# Altium footprint library MLACH_obsolete.PCBLIB: 154 footprints (part 8 of 10)
Each footprint in its own frame and in the unit in brackets; x right, y up, seen from the top. Pads: shape width x height; smd on the part's side, far side on the other; paste and mask are expansions set on the pad; w line width, h text height; cw(c..) or ccw(c..) is an arc to the next point about the centre after c.
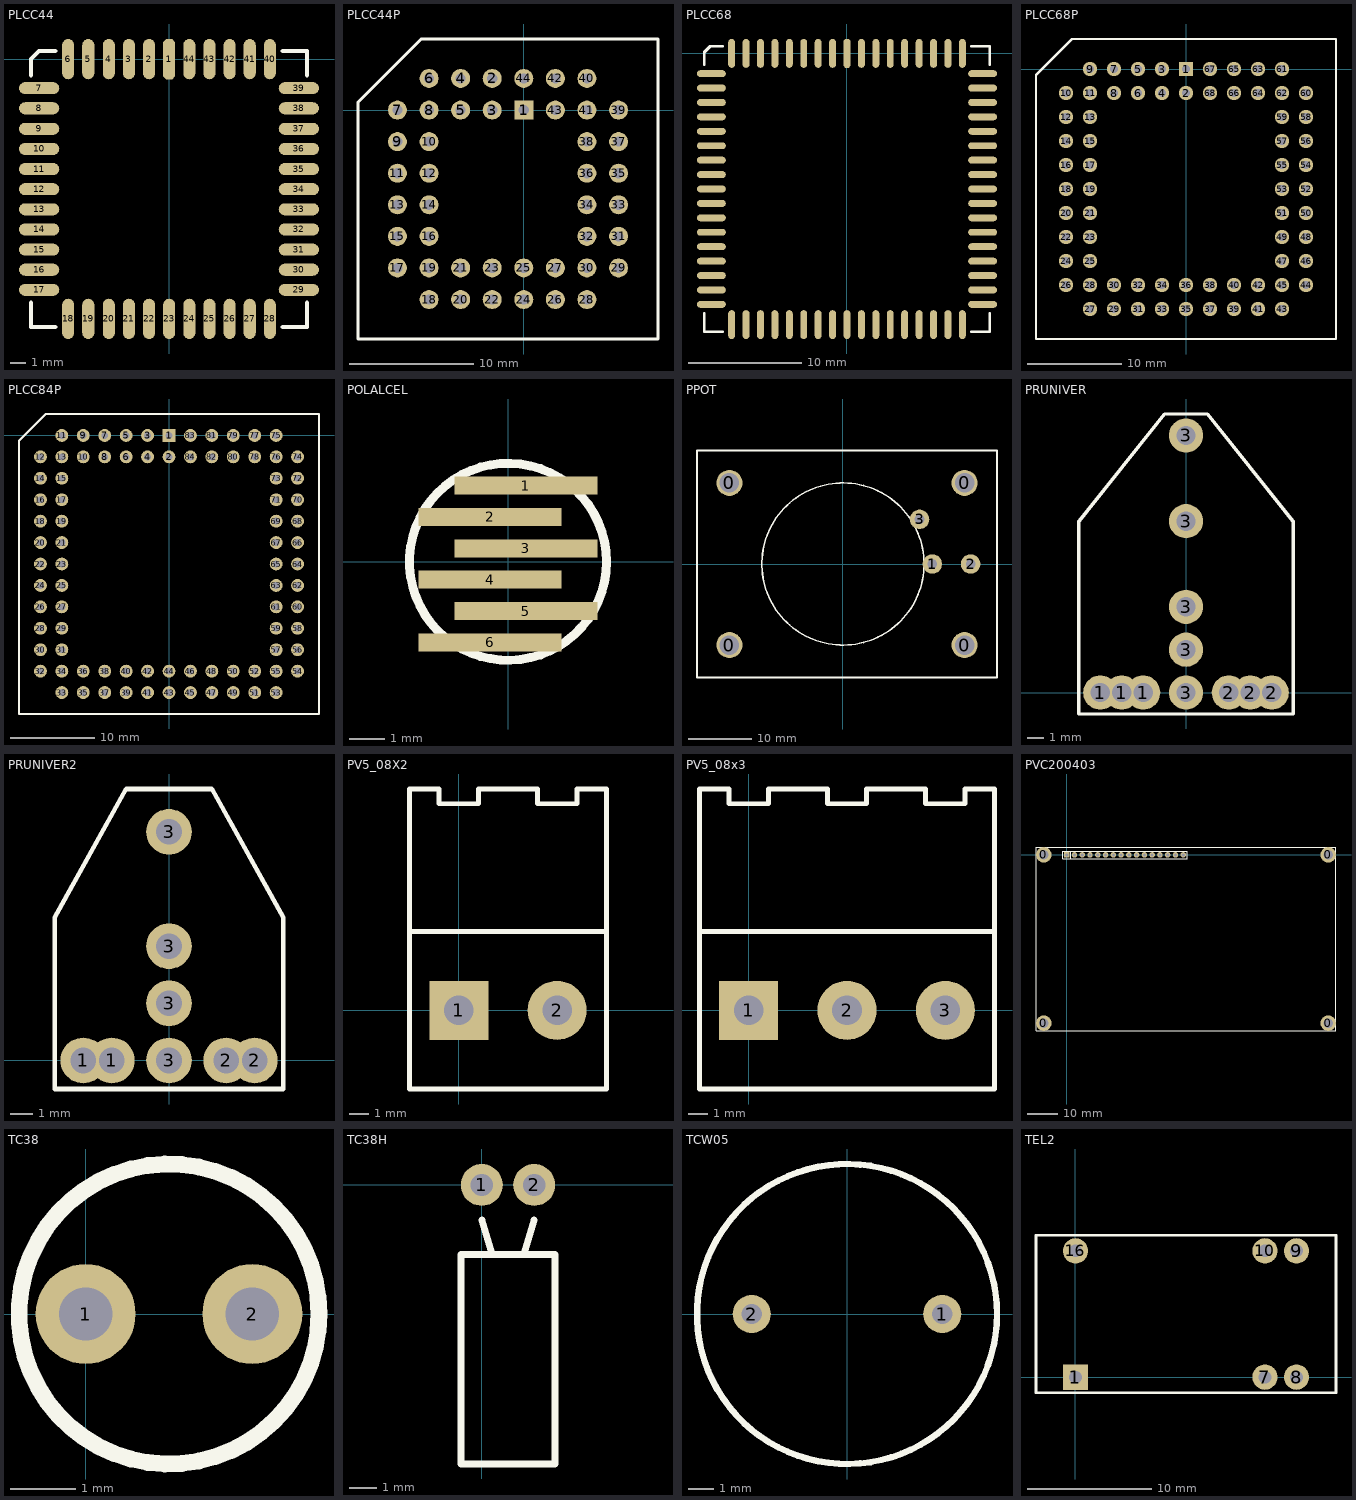
[diagram p7: the footprints below, top view; thin cyan lines are the x and y axes]

## PLCC44 [mil]
pads (44):
  oct 30x100 smd: 1(0,0)
  oval 30x100 smd: 2(-50,0) 3(-100,0) 4(-150,0) 5(-201,0) 6(-251,0) 18(-251,-645) 19(-201,-645) 20(-150,-645) 21(-100,-645) 22(-50,-645) 23(0,-645) 24(50,-645) 25(100,-645) 26(150,-645) 27(200,-645) 28(250,-645) 40(250,0) 41(200,0) 42(150,0) 43(100,0) 44(50,0)
  oval 100x30 smd: 7(-323,-72) 8(-323,-122) 9(-323,-173) 10(-323,-223) 11(-323,-273) 12(-323,-323) 13(-323,-373) 14(-323,-423) 15(-323,-473) 16(-323,-523) 17(-323,-573) 29(322,-573) 30(322,-523) 31(322,-473) 32(322,-423) 33(322,-373) 34(322,-323) 35(322,-273) 36(322,-223) 37(322,-173) 38(322,-122) 39(322,-72)
TopOverlay:
  lines w10: -343,-605 -343,-665 -283,-665 ; -343,-40 -343,0 -323,20 -283,20 ; 282,-665 342,-665 342,-605 ; 282,20 342,20 342,-40

## PLCC44P [mil]
pads (44):
  rect 60x60 hole 32: 1(0,0)
  round 60 hole 32: 2(-100,100) 3(-100,0) 4(-200,100) 5(-200,0) 6(-300,100) 7(-400,0) 8(-300,0) 9(-400,-100) 10(-300,-100) 11(-400,-200) 12(-300,-200) 13(-400,-300) 14(-300,-300) 15(-400,-400) 16(-300,-400) 17(-400,-500) 18(-300,-600) 19(-300,-500) 20(-200,-600) 21(-200,-500) 22(-100,-600) 23(-100,-500) 24(0,-600) 25(0,-500) 26(100,-600) 27(100,-500) 28(200,-600) 29(300,-500) 30(200,-500) 31(300,-400) 32(200,-400) 33(300,-300) 34(200,-300) 35(300,-200) 36(200,-200) 37(300,-100) 38(200,-100) 39(300,0) 40(200,100) 41(200,0) 42(100,100) 43(100,0) 44(0,100)
TopOverlay:
  lines w10: -525,-725 425,-725 425,225 -325,225 -525,25 -525,-725

## PLCC68 [mil]
pads (68):
  oct 24x100 smd: 1(0,0)
  oval 24x100 smd: 2(-50,0) 3(-100,0) 4(-150,0) 5(-200,0) 6(-250,0) 7(-300,0) 8(-350,0) 9(-400,0) 27(-400,-940) 28(-350,-940) 29(-300,-940) 30(-250,-940) 31(-200,-940) 32(-150,-940) 33(-100,-940) 34(-50,-940) 35(0,-940) 36(50,-940) 37(100,-940) 38(150,-940) 39(200,-940) 40(250,-940) 41(300,-940) 42(350,-940) 43(400,-940) 61(400,0) 62(350,0) 63(300,0) 64(250,0) 65(200,0) 66(150,0) 67(100,0) 68(50,0)
  oval 100x24 smd: 10(-470,-70) 11(-470,-120) 12(-470,-170) 13(-470,-220) 14(-470,-270) 15(-470,-320) 16(-470,-370) 17(-470,-420) 18(-470,-470) 19(-470,-520) 20(-470,-570) 21(-470,-620) 22(-470,-670) 23(-470,-720) 24(-470,-770) 25(-470,-820) 26(-470,-870) 44(470,-870) 45(470,-820) 46(470,-770) 47(470,-720) 48(470,-670) 49(470,-620) 50(470,-570) 51(470,-520) 52(470,-470) 53(470,-420) 54(470,-370) 55(470,-320) 56(470,-270) 57(470,-220) 58(470,-170) 59(470,-120) 60(470,-70)
TopOverlay:
  lines w10: -495,-902 -495,-965 -432,-965 ; -495,-38 -495,4 -474,25 -432,25 ; 432,-965 495,-965 495,-902 ; 432,25 495,25 495,-38

## PLCC68P [mil]
pads (68):
  rect 60x60 hole 32: 1(0,0)
  round 60 hole 32: 2(0,-100) 3(-100,0) 4(-100,-100) 5(-200,0) 6(-200,-100) 7(-300,0) 8(-300,-100) 9(-400,0) 10(-500,-100) 11(-400,-100) 12(-500,-200) 13(-400,-200) 14(-500,-300) 15(-400,-300) 16(-500,-400) 17(-400,-400) 18(-500,-500) 19(-400,-500) 20(-500,-600) 21(-400,-600) 22(-500,-700) 23(-400,-700) 24(-500,-800) 25(-400,-800) 26(-500,-900) 27(-400,-1000) 28(-400,-900) 29(-300,-1000) 30(-300,-900) 31(-200,-1000) 32(-200,-900) 33(-100,-1000) 34(-100,-900) 35(0,-1000) 36(0,-900) 37(100,-1000) 38(100,-900) 39(200,-1000) 40(200,-900) 41(300,-1000) 42(300,-900) 43(400,-1000) 44(500,-900) 45(400,-900) 46(500,-800) 47(400,-800) 48(500,-700) 49(400,-700) 50(500,-600) 51(400,-600) 52(500,-500) 53(400,-500) 54(500,-400) 55(400,-400) 56(500,-300) 57(400,-300) 58(500,-200) 59(400,-200) 60(500,-100) 61(400,0) 62(400,-100) 63(300,0) 64(300,-100) 65(200,0) 66(200,-100) 67(100,0) 68(100,-100)
TopOverlay:
  lines w10: -625,-1125 625,-1125 625,125 -475,125 -625,-25 -625,-1125

## PLCC84P [mil]
pads (84):
  rect 60x60 hole 32: 1(0,0)
  round 60 hole 32: 2(0,-100) 3(-100,0) 4(-100,-100) 5(-200,0) 6(-200,-100) 7(-300,0) 8(-300,-100) 9(-400,0) 10(-400,-100) 11(-500,0) 12(-600,-100) 13(-500,-100) 14(-600,-200) 15(-500,-200) 16(-600,-300) 17(-500,-300) 18(-600,-400) 19(-500,-400) 20(-600,-500) 21(-500,-500) 22(-600,-600) 23(-500,-600) 24(-600,-700) 25(-500,-700) 26(-600,-800) 27(-500,-800) 28(-600,-900) 29(-500,-900) 30(-600,-1000) 31(-500,-1000) 32(-600,-1100) 33(-500,-1200) 34(-500,-1100) 35(-400,-1200) 36(-400,-1100) 37(-300,-1200) 38(-300,-1100) 39(-200,-1200) 40(-200,-1100) 41(-100,-1200) 42(-100,-1100) 43(0,-1200) 44(0,-1100) 45(100,-1200) 46(100,-1100) 47(200,-1200) 48(200,-1100) 49(300,-1200) 50(300,-1100) 51(400,-1200) 52(400,-1100) 53(500,-1200) 54(600,-1100) 55(500,-1100) 56(600,-1000) 57(500,-1000) 58(600,-900) 59(500,-900) 60(600,-800) 61(500,-800) 62(600,-700) 63(500,-700) 64(600,-600) 65(500,-600) 66(600,-500) 67(500,-500) 68(600,-400) 69(500,-400) 70(600,-300) 71(500,-300) 72(600,-200) 73(500,-200) 74(600,-100) 75(500,0) 76(500,-100) 77(400,0) 78(400,-100) 79(300,0) 80(300,-100) 81(200,0) 82(200,-100) 83(100,0) 84(100,-100)
TopOverlay:
  lines w10: -700,-1300 -700,-25 -575,100 700,100 700,-1300 -700,-1300

## POLALCEL [mil]
pads (6):
  rect 160x20 smd: 1(20,85) 2(-20,50) 3(20,15) 4(-20,-20) 5(20,-55) 6(-20,-90)
TopOverlay:
  circle w10: c0,0 r110

## PPOT [mil]
pads (7):
  round 160 hole 120: 0(-700,-500) 0(-700,500) 0(750,-500) 0(750,500)
  round 120 hole 60: 1(551.18,0) 2(787.4,0) 3(472.44,275.59)
TopOverlay:
  circle w10: c0,0 r500
  lines w10: -900,-700 950,-700 950,700 -900,700 -900,-700

## PRUNIVER [mil]
pads (11):
  round 80 hole 45: 1(-200,0) 1(-150,0) 1(-100,0) 2(100,0) 2(150,0) 2(200,0) 3(0,0) 3(0,100) 3(0,200) 3(0,400) 3(0,600)
TopOverlay:
  lines w8: -250,-50 250,-50 250,400 50,650 -50,650 -250,400 -250,-50

## PRUNIVER2 [mil]
pads (8):
  round 80 hole 45: 1(-150,0) 1(-100,0) 2(100,0) 2(150,0) 3(0,0) 3(0,100) 3(0,200) 3(0,400)
TopOverlay:
  lines w8: -200,-50 200,-50 200,250 75,475 -75,475 -200,250 -200,-50

## PV5_08X2 [mil]
pads (2):
  rect 120x120 hole 60: 1(0,0)
  round 120 hole 60: 2(200,0)
TopOverlay:
  lines w10: -100,160 -100,-160 300,-160 300,160 ; -100,160 300,160 ; -100,160 -100,450 -40,450 -40,420 40,420 40,450 160,450 160,420 240,420 240,450 300,450 300,160

## PV5_08x3 [mil]
pads (3):
  rect 120x120 hole 60: 1(0,0)
  round 120 hole 60: 2(200,0) 3(400,0)
TopOverlay:
  lines w10: -100,160 -100,450 -40,450 -40,420 40,420 40,450 160,450 160,420 240,420 240,450 360,450 360,420 440,420 440,450 500,450 500,160 ; -100,160 500,160 ; -100,160 -100,-160 500,-160 500,160

## PVC200403 [mil]
pads (20):
  round 200 hole 120: 0(-295.28,-2165.35) 0(-295.28,0) 0(3366.14,-2165.35) 0(3366.14,0)
  rect 70x70 hole 40: 1(0,0)
  round 70 hole 40: 2(100,0) 3(200,0) 4(300,0) 5(400,0) 6(500,0) 7(600,0) 8(700,0) 9(800,0) 10(900,0) 11(1000,0) 12(1100,0) 13(1200,0) 14(1300,0) 15(1400,0) 16(1500,0)
TopOverlay:
  lines w10: 50,-50 50,50 ; -393.7,-2263.78 3464.57,-2263.78 3464.57,98.43 -393.7,98.43 -393.7,-2263.78 ; -50,-50 -50,50 1550,50 1550,-50 -50,-50

## TC38 [mil]
pads (2):
  round 60 hole 32: 1(0,0) 2(100,0)
TopOverlay:
  circle w10: c50,0 r90

## TC38H [mil]
pads (2):
  round 60 hole 32: 1(0,0) 2(75,0)
TopOverlay:
  lines w10: 0,-50 15,-100 ; 60,-100 75,-50 ; -30,-400 105,-400 105,-100 -30,-100 -30,-400

## TCW05 [mil]
pads (2):
  round 60 hole 32: 1(150,0) 2(-150,0)
TopOverlay:
  circle w10: c0,0 r236.22

## TEL2 [mil]
pads (6):
  rect 80x80 hole 40: 1(0,0)
  round 80 hole 40: 7(600,0) 8(700,0) 9(700,400) 10(600,400) 16(0,400)
TopOverlay:
  lines w8: -125,-50 825,-50 825,450 -125,450 -125,-50